# Altium schematic symbol library Tact_button.SchLib: 1 symbol
Pins are listed as number, name and electrical type; pins without a type are passive.

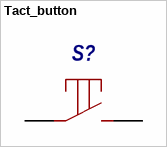
[diagram p0: symbol Tact_button]

## Tact_button
designator S?  (value not drawn)
pins: 1, 2